# Altium schematic symbol library Schraubklemme_1x2.SchLib: 1 symbol
Pins are listed as number, name and electrical type; pins without a type are passive.

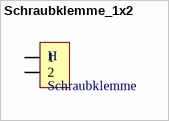
[diagram p0: symbol Schraubklemme_1x2]

## Schraubklemme_1x2
designator H, comment Schraubklemme
footprint Schraubklemme_1x2
pins: 1, 2